# EAGLE library part DSPIC33FL128GP804 (library UavComp)
dsPic33FJ128GP804
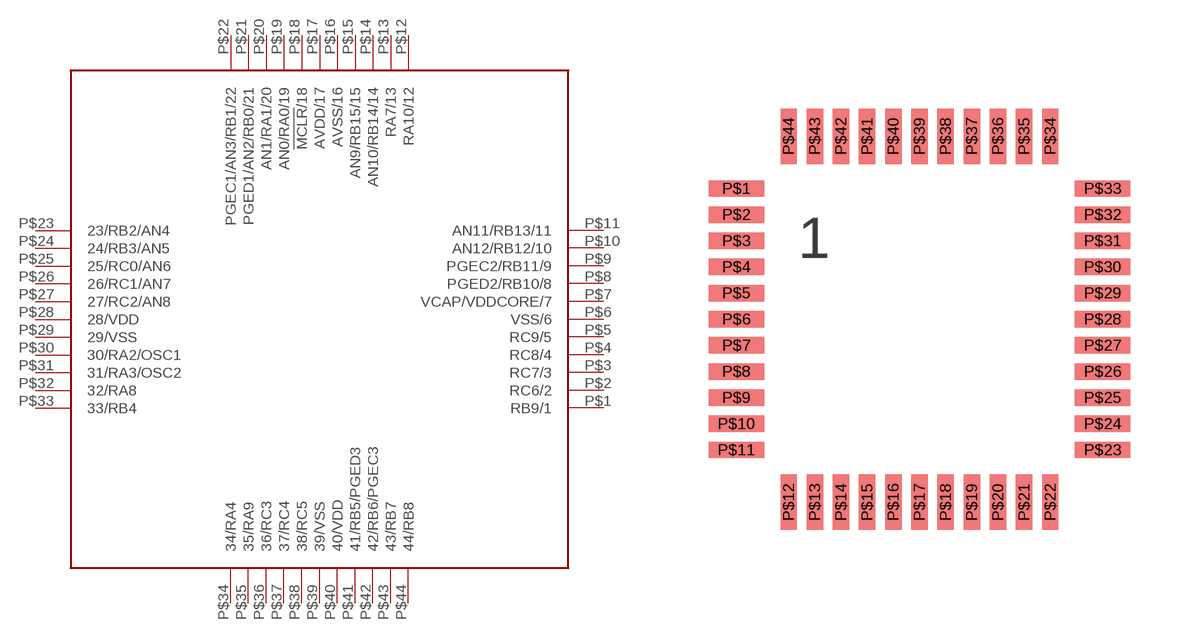
[diagram p0: symbol with the pads of DSPIC33FJ128GP804; footprint DSPIC33FJ128GP804]

Designator prefix IC

## DSPIC33FL128GP804TQFP  [DSPIC33FJ128GP804]
P$1  RB9/1
P$2  RC6/2
P$3  RC7/3
P$4  RC8/4
P$5  RC9/5
P$6  VSS/6  sup
P$7  VCAP/VDDCORE/7  pas
P$8  PGED2/RB10/8
P$9  PGEC2/RB11/9
P$10  AN12/RB12/10
P$11  AN11/RB13/11
P$12  RA10/12
P$13  RA7/13
P$14  AN10/RB14/14
P$15  AN9/RB15/15
P$16  AVSS/16  sup
P$17  AVDD/17  sup
P$18  !MCLR!/18
P$19  AN0/RA0/19
P$20  AN1/RA1/20
P$21  PGED1/AN2/RB0/21
P$22  PGEC1/AN3/RB1/22
P$23  23/RB2/AN4
P$24  24/RB3/AN5
P$25  25/RC0/AN6
P$26  26/RC1/AN7
P$27  27/RC2/AN8
P$28  28/VDD  sup
P$29  29/VSS  sup
P$30  30/RA2/OSC1
P$31  31/RA3/OSC2
P$32  32/RA8
P$33  33/RB4
P$34  34/RA4
P$35  35/RA9
P$36  36/RC3
P$37  37/RC4
P$38  38/RC5
P$39  39/VSS  sup
P$40  40/VDD  sup
P$41  41/RB5/PGED3
P$42  42/RB6/PGEC3
P$43  43/RB7
P$44  44/RB8

## Footprint DSPIC33FJ128GP804 (pad centres in mm)
smd 1.7 x 0.5: P$1 -5.6,4; P$2 -5.6,3.2; P$3 -5.6,2.4; P$4 -5.6,1.6; P$5 -5.6,0.8; P$6 -5.6,0; P$7 -5.6,-0.8; P$8 -5.6,-1.6; P$9 -5.6,-2.4; P$10 -5.6,-3.2; P$11 -5.6,-4; P$23 5.6,-4; P$24 5.6,-3.2; P$25 5.6,-2.4; P$26 5.6,-1.6; P$27 5.6,-0.8; P$28 5.6,0; P$29 5.6,0.8; P$30 5.6,1.6; P$31 5.6,2.4; P$32 5.6,3.2; P$33 5.6,4
smd 0.5 x 1.7: P$12 -4,-5.6; P$13 -3.2,-5.6; P$14 -2.4,-5.6; P$15 -1.6,-5.6; P$16 -0.8,-5.6; P$17 0,-5.6; P$18 0.8,-5.6; P$19 1.6,-5.6; P$20 2.4,-5.6; P$21 3.2,-5.6; P$22 4,-5.6; P$34 4,5.6; P$35 3.2,5.6; P$36 2.4,5.6; P$37 1.6,5.6; P$38 0.8,5.6; P$39 0,5.6; P$40 -0.8,5.6; P$41 -1.6,5.6; P$42 -2.4,5.6; P$43 -3.2,5.6; P$44 -4,5.6